# Altium schematic symbol library 1614997-1.SchLib: 1 symbol
Pins are listed as number, name and electrical type; pins without a type are passive.

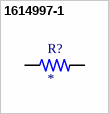
[diagram p0: symbol 1614997-1]

## 1614997-1
designator R?
LR0204 1% 13K3; MP: 1614997-1; MF: {'manufacturer': u'TE Connectivity'}; Value: *; Price: None; Package: None; Availability: Unavailable
footprint RESAD640W45L370D200
pins: 1, 2